# Altium footprint library robot-cortex.PcbLib: 38 footprints (part 1 of 3)
Each footprint in its own frame and in the unit in brackets; x right, y up, seen from the top. Pads: shape width x height; smd on the part's side, far side on the other; paste and mask are expansions set on the pad; w line width, h text height; cw(c..) or ccw(c..) is an arc to the next point about the centre after c.
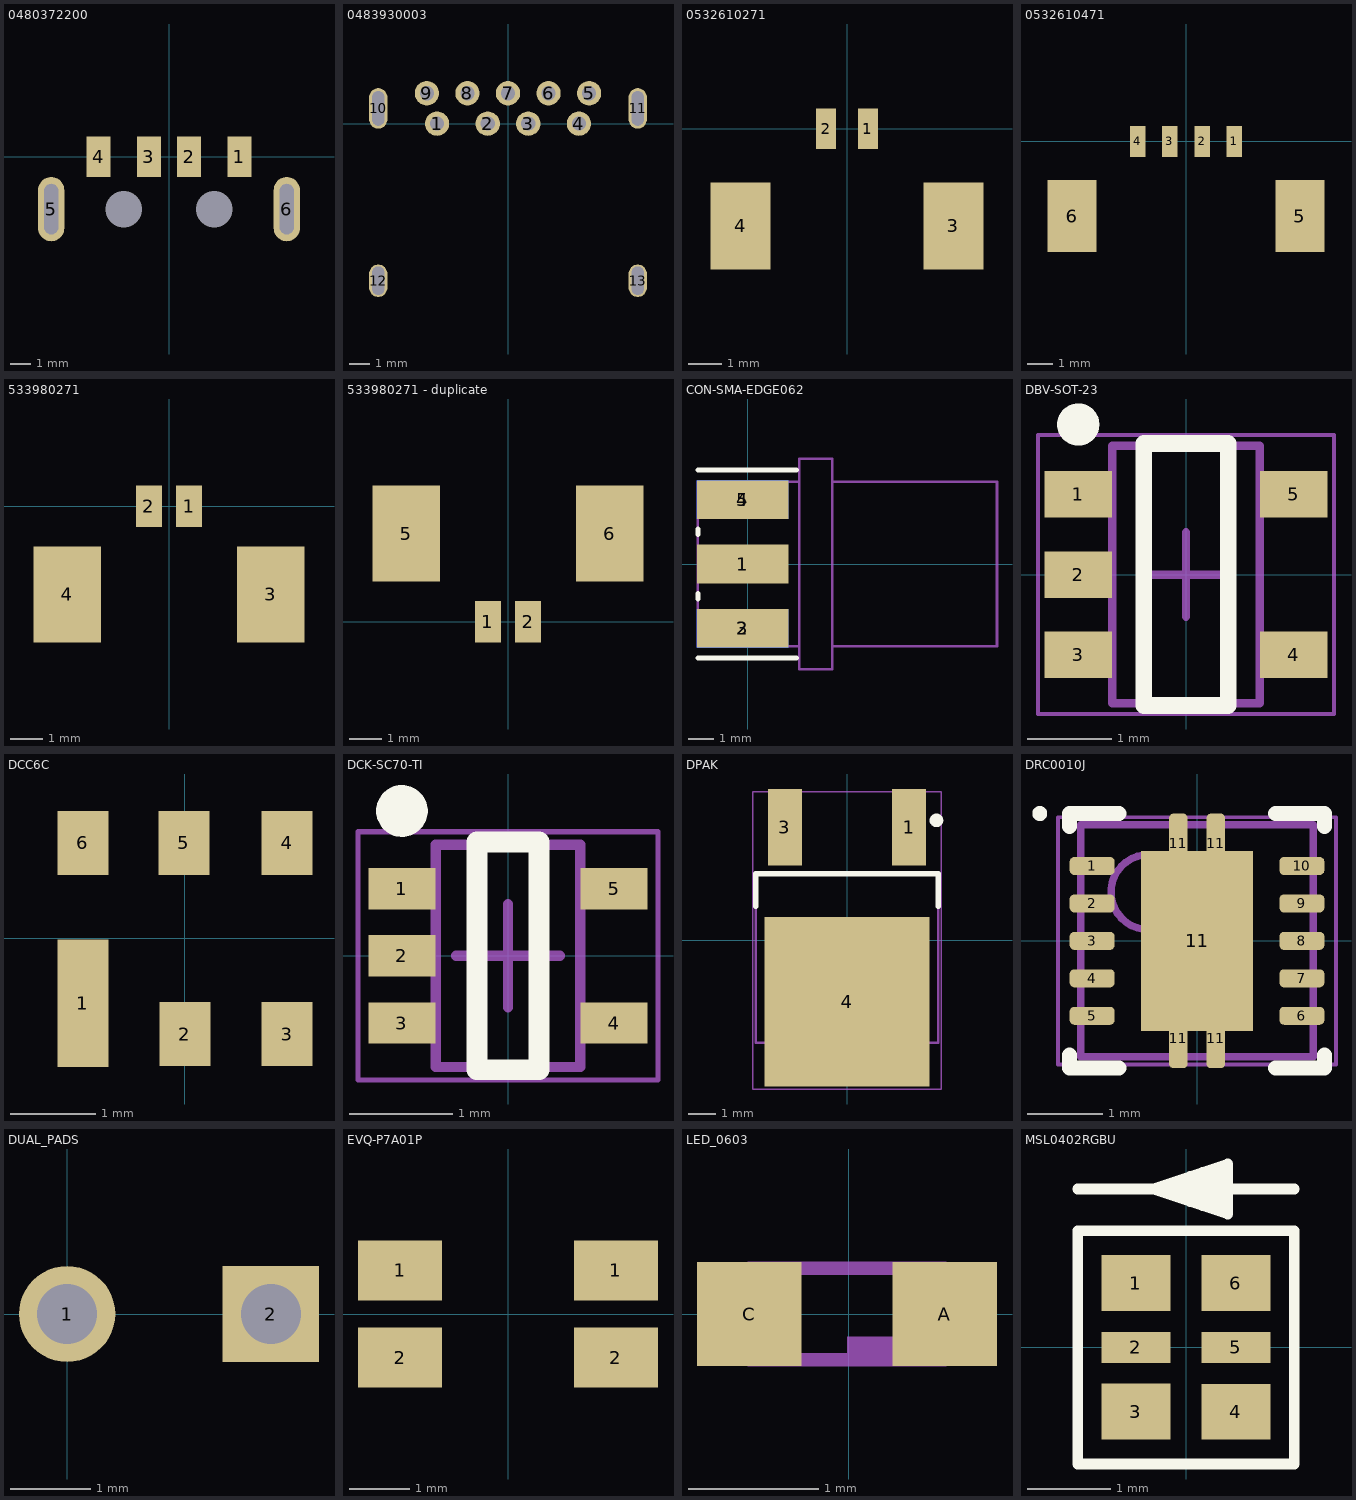
[diagram p0: the footprints below, top view; thin cyan lines are the x and y axes]

## 0480372200 [mm]
pads (8):
  rect 1.2x2 smd: 1(3.5,0) 2(1,0) 3(-1,0) 4(-3.5,0)
  oval 1.3x3.2 hole 0.7 slot 2.5 at 90 deg: 5(-5.85,-2.6) 6(5.85,-2.6)
  round 0 hole 1.8: 5(-2.25,-2.6) 5(2.25,-2.6)
3D body "usb_connector.stp": height 2.25, standoff -2.25, extent -6.025,-20.375 6.025,0.575

## 0483930003 [mm]
pads (13):
  round 1.2 hole 0.7: 1(-3.5,0) 2(-1,0) 3(1,0) 4(3.5,0) 5(4,1.5) 6(2,1.5) 7(0,1.5) 8(-2,1.5) 9(-4,1.5)
  oval 0.9x2 hole 0.6 slot 1.7 at 90 deg: 10(-6.4,0.75) 11(6.4,0.75)
  oval 0.9x1.6 hole 0.6 slot 1.4 at 90 deg: 12(-6.4,-7.75) 13(6.4,-7.75)
3D body "483930003.stp": height 6.95, standoff -1.09, extent -6.9,-11.75 6.9,2.5

## 0532610271 [mm]
pads (4):
  rect 0.6x1.2 smd: 1(0.625,0) 2(-0.625,0)
  rect 1.8x2.6 smd: 3(3.175,-2.9) 4(-3.175,-2.9)
3D body "532610271.stp": height 3.39, standoff -0.01, extent -3.825,-4.912 3.825,0.288

## 0532610471 [mm]
pads (6):
  rect 0.6x1.2 smd: 1(1.875,0) 2(0.625,0) 3(-0.625,0) 4(-1.875,0)
  rect 1.9x2.8 smd: 5(4.425,-2.9) 6(-4.425,-2.9)
3D body "532610471.stp": height 3.39, standoff -0.01, extent -5.075,-4.975 5.075,0.225

## 533980271 [mm]
pads (4):
  rect 0.8x1.3 smd: 1(0.625,0) 2(-0.625,0)
  rect 2.1x3 smd: 3(3.175,-2.75) 4(-3.175,-2.75)
3D body "533980271.stp": height 4.74, standoff 0, extent -3.825,-3.8 3.825,0.4

## 533980271 - duplicate [mm]
pads (4):
  rect 0.8x1.3 smd: 1(-0.625,0) 2(0.625,0)
  rect 2.1x3 smd: 5(-3.175,2.75) 6(3.175,2.75)
3D body "533980271.stp": height 4.74, standoff 0, extent -3.825,-0.4 3.825,3.8

## CON-SMA-EDGE062 [mm] "Connector, SMA Female Edge Mount for 0.062\" Thick Board, 5-Lead, Body Dia. 7.9mm"
height 4.78
pads (5):
  rect 3.6x1.524 smd: 1(-0.2,0) 2(-0.2,-2.54) 5(-0.2,2.54)
  rect 3.6x1.524 smd far side: 3(-0.2,-2.54) 4(-0.2,2.54)
Top Overlay:
  lines w0.2: -1.968,-3.702 1.932,-3.702 ; -1.968,-1.378 -1.968,-1.162 ; -1.968,1.162 -1.968,1.378 ; -1.968,3.702 1.932,3.702
Bottom Overlay:
  lines w0.2: -1.968,-3.702 1.932,-3.702 ; -1.968,-1.378 -1.968,-1.162 ; -1.968,1.162 -1.968,1.378 ; -1.968,3.702 1.932,3.702
Mechanical 13:
  lines w0.1: 2.032,-3.25 -1.968,-3.25 -1.968,3.25 2.032,3.25 ; 3.332,-3.25 9.832,-3.25 9.832,3.25 3.332,3.25 ; 2.032,-4.15 3.332,-4.15 3.332,4.15 2.032,4.15 2.032,-4.15
Mechanical 15:
  lines w0.1: -0.5,0 0.5,0 ; 0,-0.5 0,0.5
3D body "sma-conn.stp": height 4.62, standoff -3.31, extent -1.731,-3.965 9.779,3.964

## DBV-SOT-23 [mm] "SOT23, 5-Leads, Body 2.90x2.80mm, Pitch 0.95mm, IPC High Density"
height 1.45
pads (5):
  rect 0.8x0.55 smd: 1(-1.275,0.95) 2(-1.275,0) 3(-1.275,-0.95) 4(1.275,-0.95) 5(1.275,0.95)
Top Overlay:
  circle w0.25: c-1.275,1.775 r0.125
  lines w0.2: -0.5,-1.55 0.5,-1.55 0.5,1.55 -0.5,1.55 -0.5,-1.55
Mechanical 13:
  lines w0.1: -0.875,-1.525 -0.875,1.525 0.875,1.525 0.875,-1.525 -0.875,-1.525
Mechanical 15:
  lines w0.05: -1.75,-1.65 -1.75,1.65 1.75,1.65 1.75,-1.65 -1.75,-1.65
  lines w0.1: -0.5,0 0.5,0 ; 0,-0.5 0,0.5
3D body "SOT95P280X145-5L.step": height 1.45, standoff 0, extent -1.5,-1.525 1.5,1.525

## DCC6C [mm]
pads (6):
  rect 0.6x1.5 smd: 1(-1.2,-0.762)
  rect 0.6x0.75 smd: 2(0,-1.125) 3(1.2,-1.125) 4(1.2,1.12) 5(-0.013,1.12) 6(-1.2,1.12)
3D body "DCC6C.STEP": height 1.4, standoff 0, extent -1.5,-1.5 1.5,1.5

## DCK-SC70-TI [mm] "SOT23, 5-Leads, Body 2.00x2.10mm, Pitch 0.65mm, IPC High Density"
height 1.1
pads (5):
  rect 0.65x0.4 smd: 1(-1.025,0.65) 2(-1.025,0) 3(-1.025,-0.65) 4(1.025,-0.65) 5(1.025,0.65)
Top Overlay:
  circle w0.25: c-1.025,1.4 r0.125
  lines w0.2: -0.3,-1.1 0.3,-1.1 0.3,1.1 -0.3,1.1 -0.3,-1.1
Mechanical 13:
  lines w0.1: -0.7,-1.075 -0.7,1.075 0.7,1.075 0.7,-1.075 -0.7,-1.075
Mechanical 15:
  lines w0.05: -1.45,-1.2 -1.45,1.2 1.45,1.2 1.45,-1.2 -1.45,-1.2
  lines w0.1: -0.5,0 0.5,0 ; 0,-0.5 0,0.5
3D body "SOT65P210X110-5L.step": height 1.1, standoff 0, extent -1.2,-1.075 1.2,1.075

## DPAK [mm]
pads (3):
  rect 1.25x2.8 smd: 1(2.28,4.15) 3(-2.28,4.15)
  rect 6.05x6.2 smd: 4(0,-2.25)
Top Overlay:
  circle w0.25: c3.28,4.4 r0.125
  lines w0.2: -3.35,1.25 -3.35,2.45 3.35,2.45 3.35,1.25
Mechanical 13:
  lines w0.1: -3.35,-3.75 3.35,-3.75 3.35,2.45 -3.35,2.45 -3.35,-3.75
Mechanical 15:
  lines w0.05: -3.45,-5.45 3.45,-5.45 3.45,5.45 -3.45,5.45 -3.45,-5.45
  lines w0.1: -0.5,0 0.5,0 ; 0,-0.5 0,0.5
3D body "DPAK228P991X239-3L.step": height 2.39, standoff 0, extent -3.35,-5.235 3.35,4.67

## DRC0010J [mm] "SON, 10-Leads, Body 3.00x3.00mm, Pitch 0.50mm, Thermal Pad 2.40x1.49mm, IPC High Density"
height 1
pads (15):
  rrect50% 0.6x0.24 smd: 1(-1.4,1) 2(-1.4,0.5) 3(-1.4,0) 4(-1.4,-0.5) 5(-1.4,-1) 6(1.4,-1) 7(1.4,-0.5) 8(1.4,0) 9(1.4,0.5) 10(1.4,1)
  rrect50% 0.25x0.8 smd: 11(-0.25,-1.3) 11(-0.25,1.3) 11(0.25,-1.3) 11(0.25,1.3)
  rect 1.49x2.4 smd: 11(0,0)
Top Overlay:
  circle w0.1: c-2.1,1.7 r0.05
  lines w0.2: -1.7,-1.525 -1.7,-1.7 -1.045,-1.7 ; -1.7,1.525 -1.7,1.7 -1.045,1.7 ; 1.045,-1.7 1.7,-1.7 1.7,-1.525 ; 1.045,1.7 1.7,1.7 1.7,1.525
Mechanical 13:
  circle w0.1: c-0.65,0.65 r0.5
  lines w0.1: -1.55,-1.55 -1.55,1.55 1.55,1.55 1.55,-1.55 -1.55,-1.55
Mechanical 15:
  lines w0.05: -1.855,-1.65 -1.855,1.65 1.855,1.65 1.855,-1.65 -1.855,-1.65
  lines w0.1: -0.5,0 0.5,0 ; 0,-0.5 0,0.5
3D body "SON50P300X100_HS-11L.step": height 1, standoff 0, extent -1.55,-1.55 1.55,1.55

## DUAL_PADS [mm]
pads (2):
  round 1.2 hole 0.75: 1(0,0)
  rect 1.2x1.2 hole 0.75: 2(2.54,0)

## EVQ-P7A01P [mm]
pads (4):
  rect 1.4x1 smd: 1(-1.8,0.725) 1(1.8,0.725) 2(-1.8,-0.725) 2(1.8,-0.725)
3D body "EVQP7-JA-01P.STEP": height 1.35, standoff 0, extent -2.35,-2.1 2.35,1.45

## LED_0603 [mil]
pads (2):
  rect 31.5x31.5 smd: A(29.06,0) C(-30,0)
Mechanical 2:
  region: 9.37,-6.89 9.37,-15.75 -0.47,-15.75 -0.47,-6.89
  lines w4: -8.34,-13.78 7.4,-13.78 ; -8.34,13.78 7.4,13.78
Mechanical 8:
  region: 15.28,-6.89 15.28,-15.75 -0.47,-15.75 -0.47,-6.89
  lines w4: -18.19,-11.81 -18.19,11.81 ; 17.25,-11.81 17.25,11.81 ; -30,-13.78 -30,13.78 29.06,13.78 29.06,-13.78 -30,-13.78
3D body "0603_single.stp": height 28, standoff -0.5, extent -32,-15.5 32,15.5

## MSL0402RGBU [mm]
pads (6):
  rect 0.83x0.67 smd: 1(-0.6,0.772) 3(-0.6,-0.772) 4(0.6,-0.772) 6(0.6,0.772)
  rect 0.83x0.37 smd: 2(-0.6,0) 5(0.6,0)
Top Overlay:
  lines w0.127: -1.3,1.9 -0.4,1.9 ; 0.7,1.9 -0.4,1.9 ; 1.3,1.9 0.5,1.9 ; -0.4,1.9 0.1,2 ; -0.4,1.9 0.1,1.8 ; -0.4,1.9 0.5,2.2 ; -0.4,1.9 0.5,1.6 ; 0.1,1.8 0.5,1.9 ; 0.1,1.8 0.1,2 ; 0.1,2 0.5,1.9 ; 0.5,1.6 0.2,1.7 0.5,2.2 ; 0.5,1.6 0.2,2.1 0.05,2.05 0.5,1.6 ; 0.5,1.6 0.05,1.75 0.5,2.2 ; 0.5,1.6 0.5,2.2 ; -1.3,-1.4 -1.3,1.4 1.3,1.4 1.3,-1.4 -1.3,-1.4
3D body "MSL04.step": height 0.48, standoff -0.02, extent -0.8,-0.9 0.8,0.9